# EAGLE library part M-2X12- (library con-headers-jp)
MALE HEADER
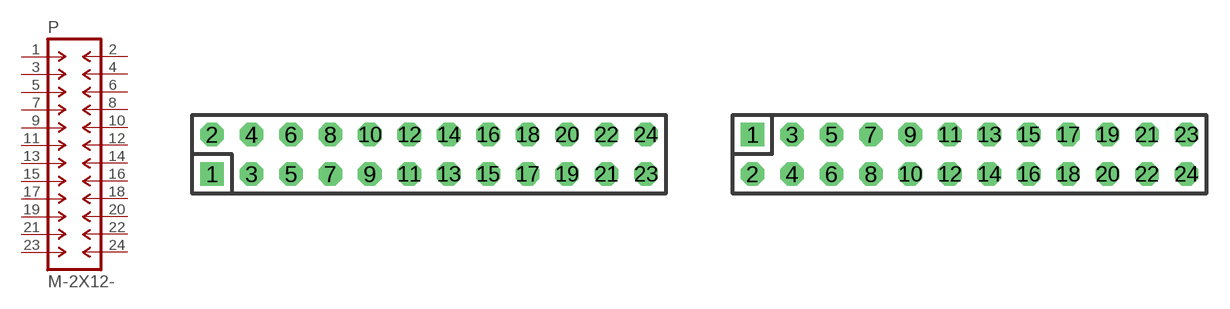
[diagram p68: symbol with the pads of DIL-100-2X12; footprints DIL-100-2X12, DIL-100-2X12_M]

Designator prefix P

## M-2X12-DIL-100  [DIL-100-2X12]
1  1  pas
2  2  pas
3  3  pas
4  4  pas
5  5  pas
6  6  pas
7  7  pas
8  8  pas
9  9  pas
10  10  pas
11  11  pas
12  12  pas
13  13  pas
14  14  pas
15  15  pas
16  16  pas
17  17  pas
18  18  pas
19  19  pas
20  20  pas
21  21  pas
22  22  pas
23  23  pas
24  24  pas

## M-2X12-DIL-100_M  [DIL-100-2X12_M]
Pads as for DIL-100-2X12

## M-2X12-DIL-2MM  [DIL-2MM-2X12]
Pads as for DIL-100-2X12

## M-2X12-DIL-2MM_M  [DIL-2MM-2X12_M]
Pads as for DIL-100-2X12

## M-2X12-87759  [87759-24]
Pads as for DIL-100-2X12

## M-2X12-87759_M  [87759-24_M]
Pads as for DIL-100-2X12

## Footprint DIL-100-2X12 (pad centres in mm)
PIN HEADER - 0.1"
drill 1.016 square: 1 -13.97,-1.27
drill 1.016 octagon: 2 -13.97,1.27; 3 -11.43,-1.27; 4 -11.43,1.27; 5 -8.89,-1.27; 6 -8.89,1.27; 7 -6.35,-1.27; 8 -6.35,1.27; 9 -3.81,-1.27; 10 -3.81,1.27; 11 -1.27,-1.27; 12 -1.27,1.27; 13 1.27,-1.27; 14 1.27,1.27; 15 3.81,-1.27; 16 3.81,1.27; 17 6.35,-1.27; 18 6.35,1.27; 19 8.89,-1.27; 20 8.89,1.27; 21 11.43,-1.27; 22 11.43,1.27; 23 13.97,-1.27; 24 13.97,1.27

## Footprint DIL-100-2X12_M (pad centres in mm)
PIN HEADER - MIRRORED 0.1"
drill 1.016 square: 1 -13.97,1.27
drill 1.016 octagon: 2 -13.97,-1.27; 3 -11.43,1.27; 4 -11.43,-1.27; 5 -8.89,1.27; 6 -8.89,-1.27; 7 -6.35,1.27; 8 -6.35,-1.27; 9 -3.81,1.27; 10 -3.81,-1.27; 11 -1.27,1.27; 12 -1.27,-1.27; 13 1.27,1.27; 14 1.27,-1.27; 15 3.81,1.27; 16 3.81,-1.27; 17 6.35,1.27; 18 6.35,-1.27; 19 8.89,1.27; 20 8.89,-1.27; 21 11.43,1.27; 22 11.43,-1.27; 23 13.97,1.27; 24 13.97,-1.27

## Footprint DIL-2MM-2X12 (pad centres in mm)
PIN HEADER - 2MM"
drill 0.711 square: 1 -11,-1
drill 0.711: 2 -11,1; 3 -9,-1; 4 -9,1; 5 -7,-1; 6 -7,1; 7 -5,-1; 8 -5,1; 9 -3,-1; 10 -3,1; 11 -1,-1; 12 -1,1; 13 1,-1; 14 1,1; 15 3,-1; 16 3,1; 17 5,-1; 18 5,1; 19 7,-1; 20 7,1; 21 9,-1; 22 9,1; 23 11,-1; 24 11,1

## Footprint DIL-2MM-2X12_M (pad centres in mm)
PIN HEADER - MIRRORED 2MM
drill 0.711 square: 1 -11,1
drill 0.711: 2 -11,-1; 3 -9,1; 4 -9,-1; 5 -7,1; 6 -7,-1; 7 -5,1; 8 -5,-1; 9 -3,1; 10 -3,-1; 11 -1,1; 12 -1,-1; 13 1,1; 14 1,-1; 15 3,1; 16 3,-1; 17 5,1; 18 5,-1; 19 7,1; 20 7,-1; 21 9,1; 22 9,-1; 23 11,1; 24 11,-1

## Footprint 87759-24 (pad centres in mm)
Molex PCB Pin Headers 2.00mm (.079") Pitch Milli-Grid Header, Vertical SMD
smd 1 x 2.75: 1 -11,-2.15; 2 -11,2.15; 3 -9,-2.15; 4 -9,2.15; 5 -7,-2.15; 6 -7,2.15; 7 -5,-2.15; 8 -5,2.15; 9 -3,-2.15; 10 -3,2.15; 11 -1,-2.15; 12 -1,2.15; 13 1,-2.15; 14 1,2.15; 15 3,-2.15; 16 3,2.15; 17 5,-2.15; 18 5,2.15; 19 7,-2.15; 20 7,2.15; 21 9,-2.15; 22 9,2.15; 23 11,-2.15; 24 11,2.15
hole 1 at -10,0
hole 1 at 10,0

## Footprint 87759-24_M (pad centres in mm)
Molex PCB Pin Headers - MIRRORED PADS 2.00mm (.079") Pitch Milli-Grid Header, Vertical SMD
smd 1 x 2.75: 1 -11,2.15; 2 -11,-2.15; 3 -9,2.15; 4 -9,-2.15; 5 -7,2.15; 6 -7,-2.15; 7 -5,2.15; 8 -5,-2.15; 9 -3,2.15; 10 -3,-2.15; 11 -1,2.15; 12 -1,-2.15; 13 1,2.15; 14 1,-2.15; 15 3,2.15; 16 3,-2.15; 17 5,2.15; 18 5,-2.15; 19 7,2.15; 20 7,-2.15; 21 9,2.15; 22 9,-2.15; 23 11,2.15; 24 11,-2.15
hole 1 at -10,0
hole 1 at 10,0